# Altium footprint library WL-SBCW_0606.PcbLib: 1 footprints
Each footprint in its own frame and in the unit in brackets; x right, y up, seen from the top. Pads: shape width x height; smd on the part's side, far side on the other; paste and mask are expansions set on the pad; w line width, h text height; cw(c..) or ccw(c..) is an arc to the next point about the centre after c.
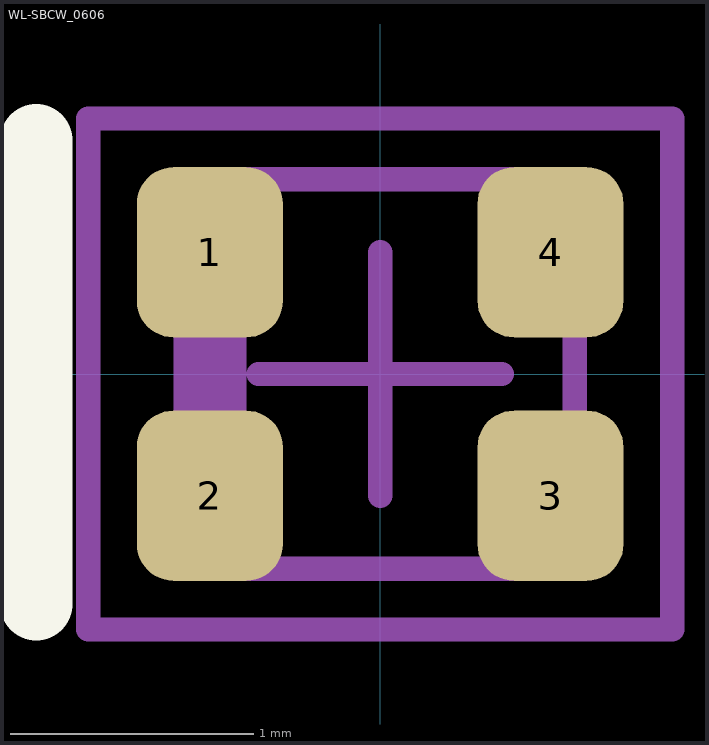
[diagram p0: the footprint, top view; thin cyan lines are the x and y axes]

## WL-SBCW_0606 [mm]
pads (4):
  rrect50% 0.6x0.7 smd mask+0.05: 1(-0.7,0.5) 2(-0.7,-0.5) 3(0.7,-0.5) 4(0.7,0.5)
Top Overlay:
  lines w0.3: -1.415,-0.946 -1.415,0.959
Top Assembly:
  rectangle: -0.8,-0.8 -0.55,0.8
  lines w0.1: -0.8,-0.8 -0.8,0.8 0.8,0.8 0.8,-0.8 -0.8,-0.8
Top Courtyard:
  lines w0.1: -0.5,0 0.5,0 ; 0,-0.5 0,0.5 ; -1.2,-1.05 1.2,-1.05 1.2,1.05 -1.2,1.05 -1.2,-1.05
3D body "WL-SBCW_0606.stp": height 0.7, standoff 0, extent -0.8,-0.8 0.8,0.8